# Altium integrated library Diodes - TVS.IntLib: 5379 symbols (part 19 of 122)
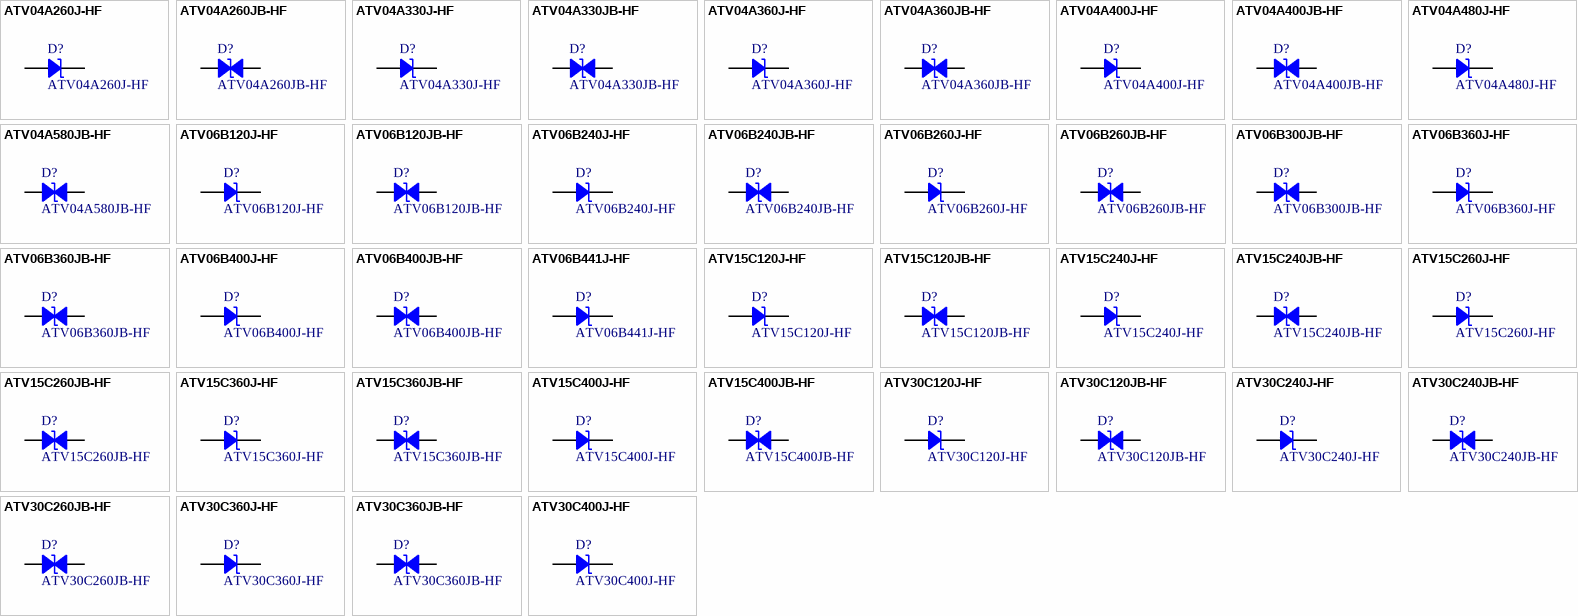
[diagram p152: symbols ATV04A260J-HF to ATV30C400J-HF]

## ATV30C120JB-HF
designator D?
TVS DIODE 12V 19.9V DO214AB; Manufacturer: Comchip Technology; Bidirectional Channels: 1; Current - Peak Pulse (10/1000µs): 150.75A; Power Line Protection: No; Power - Peak Pulse: 3000W (3kW); Type: Zener; Voltage - Breakdown (Min): 13.3V; Part Number: ATV30C120JB-HF; Applications: Automotive; ComponentLink1Description: Datasheet; ComponentLink1URL: http://www.comchiptech.com/admin/files/product/ATV30C-HF%20Series%20RevC.pdf; ComponentLink2Description: DigiKey Link; ComponentLink2URL: http://digikey.com/product-detail/en/comchip-technology/ATV30C120JB-HF/641-1589-1-ND/5013794; LastUpdated: 9/2/2020 1:28:07 AM; Lifecycle Status: Active; Minimum Order: 1; Mounting Type: Surface Mount; Operating Temperature: -55°C ~ 150°C (TJ); Package / Case: DO-214AB, SMC; Packaging: TapeAndReel; PartId: 8586; Part Status: Active; Price: 0.53; Series: Automotive, AEC-Q101; Supplier 1: DigiKey; Supplier Part Number 1: 641-1589-1-ND; Supplier Device Package: DO-214AB (SMC); Voltage - Clamping (Max) @ Ipp: 19.9V; Voltage - Reverse Standoff (Typ): 12V
footprint DO214AB SMC
pins: 1, 2

## ATV30C240J-HF
designator D?
TVS DIODE 24V 38.9V DO214AB; Manufacturer: Comchip Technology; Current - Peak Pulse (10/1000µs): 77.12A; Power Line Protection: No; Power - Peak Pulse: 3000W (3kW); Type: Zener; Unidirectional Channels: 1; Voltage - Breakdown (Min): 26.7V; Part Number: ATV30C240J-HF; Applications: Automotive; ComponentLink1Description: Datasheet; ComponentLink1URL: http://www.comchiptech.com/admin/files/product/ATV30C-HF%20Series%20RevC.pdf; ComponentLink2Description: DigiKey Link; ComponentLink2URL: http://digikey.com/product-detail/en/comchip-technology/ATV30C240J-HF/641-1592-1-ND/5013797; LastUpdated: 9/2/2020 1:20:06 AM; Lifecycle Status: Active; Minimum Order: 1; Mounting Type: Surface Mount; Operating Temperature: -55°C ~ 150°C (TJ); Package / Case: DO-214AB, SMC; Packaging: TapeAndReel; PartId: 6983; Part Status: Active; Price: 0.51; Series: Automotive, AEC-Q101; Supplier 1: DigiKey; Supplier Part Number 1: 641-1592-1-ND; Supplier Device Package: DO-214AB (SMC); Voltage - Clamping (Max) @ Ipp: 38.9V; Voltage - Reverse Standoff (Typ): 24V
footprint DO214AB SMC
pins: 1, 2

## ATV30C240JB-HF
designator D?
TVS DIODE 24V 38.9V DO214AB; Manufacturer: Comchip Technology; Bidirectional Channels: 1; Current - Peak Pulse (10/1000µs): 77.12A; Power Line Protection: No; Power - Peak Pulse: 3000W (3kW); Type: Zener; Voltage - Breakdown (Min): 26.7V; Part Number: ATV30C240JB-HF; Applications: Automotive; ComponentLink1Description: Datasheet; ComponentLink1URL: http://www.comchiptech.com/admin/files/product/ATV30C-HF%20Series%20RevC.pdf; ComponentLink2Description: DigiKey Link; ComponentLink2URL: http://digikey.com/product-detail/en/comchip-technology/ATV30C240JB-HF/641-1591-1-ND/5013796; LastUpdated: 9/2/2020 1:28:07 AM; Lifecycle Status: Active; Minimum Order: 1; Mounting Type: Surface Mount; Operating Temperature: -55°C ~ 150°C (TJ); Package / Case: DO-214AB, SMC; Packaging: TapeAndReel; PartId: 8546; Part Status: Active; Price: 0.53; Series: Automotive, AEC-Q101; Supplier 1: DigiKey; Supplier Part Number 1: 641-1591-1-ND; Supplier Device Package: DO-214AB (SMC); Voltage - Clamping (Max) @ Ipp: 38.9V; Voltage - Reverse Standoff (Typ): 24V
footprint DO214AB SMC
pins: 1, 2

## ATV30C260JB-HF
designator D?
TVS DIODE 26V 42.1V DO214AB; Manufacturer: Comchip Technology; Bidirectional Channels: 1; Current - Peak Pulse (10/1000µs): 71.26A; Power Line Protection: No; Power - Peak Pulse: 3000W (3kW); Type: Zener; Voltage - Breakdown (Min): 28.9V; Part Number: ATV30C260JB-HF; Applications: Automotive; ComponentLink1Description: Datasheet; ComponentLink1URL: http://www.comchiptech.com/admin/files/product/ATV30C-HF%20Series%20RevC.pdf; ComponentLink2Description: DigiKey Link; ComponentLink2URL: http://digikey.com/product-detail/en/comchip-technology/ATV30C260JB-HF/641-1593-1-ND/5013798; LastUpdated: 9/2/2020 1:28:07 AM; Lifecycle Status: Active; Minimum Order: 1; Mounting Type: Surface Mount; Operating Temperature: -55°C ~ 150°C (TJ); Package / Case: DO-214AB, SMC; Packaging: TapeAndReel; PartId: 8543; Part Status: Active; Price: 0.53; Series: Automotive, AEC-Q101; Supplier 1: DigiKey; Supplier Part Number 1: 641-1593-1-ND; Supplier Device Package: DO-214AB (SMC); Voltage - Clamping (Max) @ Ipp: 42.1V; Voltage - Reverse Standoff (Typ): 26V
footprint DO214AB SMC
pins: 1, 2

## ATV30C360J-HF
designator D?
TVS DIODE 36V 58.1V DO214AB; Manufacturer: Comchip Technology; Current - Peak Pulse (10/1000µs): 51.64A; Power Line Protection: No; Power - Peak Pulse: 3000W (3kW); Type: Zener; Unidirectional Channels: 1; Voltage - Breakdown (Min): 40V; Part Number: ATV30C360J-HF; Applications: Automotive; ComponentLink1Description: Datasheet; ComponentLink1URL: http://www.comchiptech.com/admin/files/product/ATV30C-HF%20Series%20RevC.pdf; ComponentLink2Description: DigiKey Link; ComponentLink2URL: http://digikey.com/product-detail/en/comchip-technology/ATV30C360J-HF/641-1596-1-ND/5013801; LastUpdated: 9/2/2020 1:20:06 AM; Lifecycle Status: Active; Minimum Order: 1; Mounting Type: Surface Mount; Operating Temperature: -55°C ~ 150°C (TJ); Package / Case: DO-214AB, SMC; Packaging: TapeAndReel; PartId: 6984; Part Status: Active; Price: 0.51; Series: Automotive, AEC-Q101; Supplier 1: DigiKey; Supplier Part Number 1: 641-1596-1-ND; Supplier Device Package: DO-214AB (SMC); Voltage - Clamping (Max) @ Ipp: 58.1V; Voltage - Reverse Standoff (Typ): 36V
footprint DO214AB SMC
pins: 1, 2

## ATV30C360JB-HF
designator D?
TVS DIODE 36V 58.1V DO214AB; Manufacturer: Comchip Technology; Bidirectional Channels: 1; Current - Peak Pulse (10/1000µs): 51.64A; Power Line Protection: No; Power - Peak Pulse: 3000W (3kW); Type: Zener; Voltage - Breakdown (Min): 40V; Part Number: ATV30C360JB-HF; Applications: Automotive; ComponentLink1Description: Datasheet; ComponentLink1URL: http://www.comchiptech.com/admin/files/product/ATV30C-HF%20Series%20RevC.pdf; ComponentLink2Description: DigiKey Link; ComponentLink2URL: http://digikey.com/product-detail/en/comchip-technology/ATV30C360JB-HF/641-1595-1-ND/5013800; LastUpdated: 9/2/2020 1:28:07 AM; Lifecycle Status: Active; Minimum Order: 1; Mounting Type: Surface Mount; Operating Temperature: -55°C ~ 150°C (TJ); Package / Case: DO-214AB, SMC; Packaging: TapeAndReel; PartId: 8544; Part Status: Active; Price: 0.53; Series: Automotive, AEC-Q101; Supplier 1: DigiKey; Supplier Part Number 1: 641-1595-1-ND; Supplier Device Package: DO-214AB (SMC); Voltage - Clamping (Max) @ Ipp: 58.1V; Voltage - Reverse Standoff (Typ): 36V
footprint DO214AB SMC
pins: 1, 2

## ATV30C400J-HF
designator D?
TVS DIODE 40V 64.5V DO214AB; Manufacturer: Comchip Technology; Current - Peak Pulse (10/1000µs): 46.51A; Power Line Protection: No; Power - Peak Pulse: 3000W (3kW); Type: Zener; Unidirectional Channels: 1; Voltage - Breakdown (Min): 44.4V; Part Number: ATV30C400J-HF; Applications: Automotive; ComponentLink1Description: Datasheet; ComponentLink1URL: http://www.comchiptech.com/admin/files/product/ATV30C-HF%20Series%20RevC.pdf; ComponentLink2Description: DigiKey Link; ComponentLink2URL: http://digikey.com/product-detail/en/comchip-technology/ATV30C400J-HF/641-1598-1-ND/5013803; LastUpdated: 9/2/2020 1:20:06 AM; Lifecycle Status: Active; Minimum Order: 1; Mounting Type: Surface Mount; Operating Temperature: -55°C ~ 150°C (TJ); Package / Case: DO-214AB, SMC; Packaging: TapeAndReel; PartId: 7008; Part Status: Active; Price: 0.51; Series: Automotive, AEC-Q101; Supplier 1: DigiKey; Supplier Part Number 1: 641-1598-1-ND; Supplier Device Package: DO-214AB (SMC); Voltage - Clamping (Max) @ Ipp: 64.5V; Voltage - Reverse Standoff (Typ): 40V
footprint DO214AB SMC
pins: 1, 2

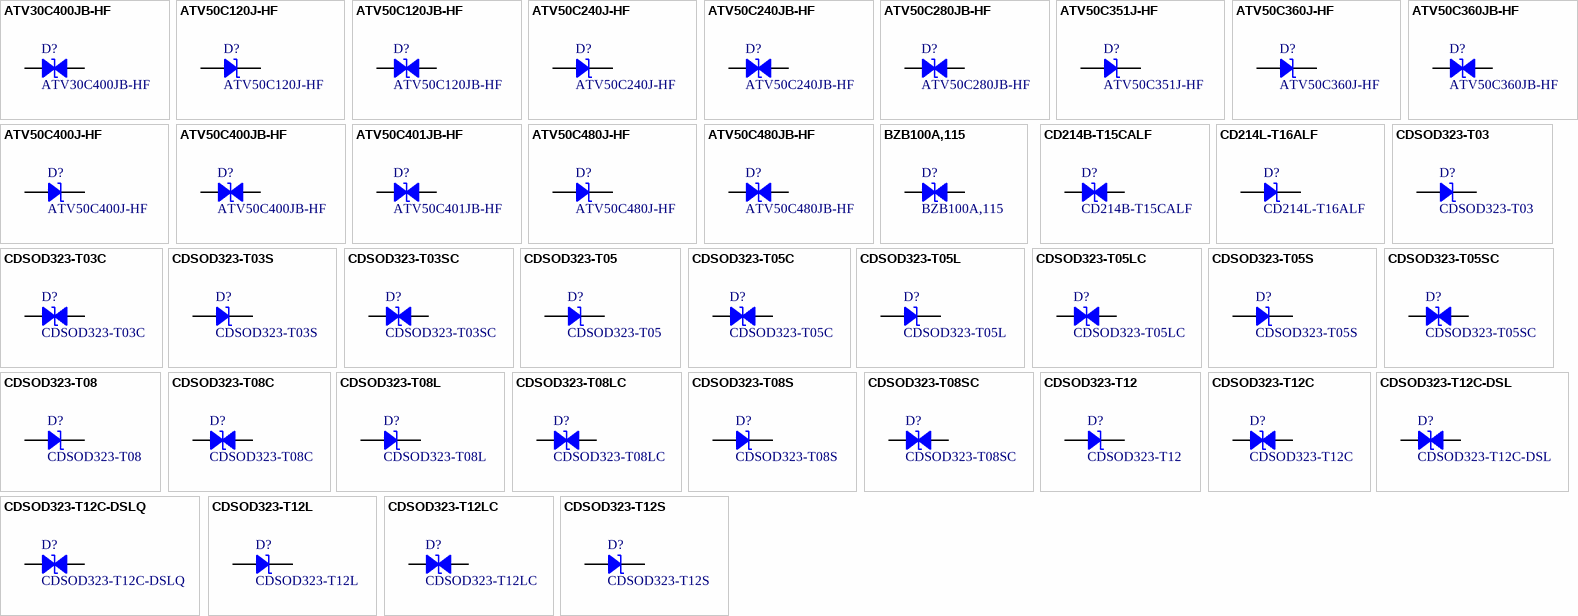
[diagram p20: symbols ATV30C400JB-HF to CDSOD323-T12S]

## ATV30C400JB-HF
designator D?
TVS DIODE 40V 64.5V DO214AB; Manufacturer: Comchip Technology; Bidirectional Channels: 1; Current - Peak Pulse (10/1000µs): 46.51A; Power Line Protection: No; Power - Peak Pulse: 3000W (3kW); Type: Zener; Voltage - Breakdown (Min): 44.4V; Part Number: ATV30C400JB-HF; Applications: Automotive; ComponentLink1Description: Datasheet; ComponentLink1URL: http://www.comchiptech.com/admin/files/product/ATV30C-HF%20Series%20RevC.pdf; ComponentLink2Description: DigiKey Link; ComponentLink2URL: http://digikey.com/product-detail/en/comchip-technology/ATV30C400JB-HF/641-1597-1-ND/5013802; LastUpdated: 9/2/2020 1:28:07 AM; Lifecycle Status: Active; Minimum Order: 1; Mounting Type: Surface Mount; Operating Temperature: -55°C ~ 150°C (TJ); Package / Case: DO-214AB, SMC; Packaging: TapeAndReel; PartId: 8545; Part Status: Active; Price: 0.53; Series: Automotive, AEC-Q101; Supplier 1: DigiKey; Supplier Part Number 1: 641-1597-1-ND; Supplier Device Package: DO-214AB (SMC); Voltage - Clamping (Max) @ Ipp: 64.5V; Voltage - Reverse Standoff (Typ): 40V
footprint DO214AB SMC
pins: 1, 2

## ATV50C120J-HF
designator D?
TVS DIODE 12V 19.9V DO214AB; Manufacturer: Comchip Technology; Current - Peak Pulse (10/1000µs): 251.3A; Power Line Protection: No; Power - Peak Pulse: 5000W (5kW); Type: Zener; Unidirectional Channels: 1; Voltage - Breakdown (Min): 13.3V; Part Number: ATV50C120J-HF; Applications: Automotive; ComponentLink1Description: Datasheet; ComponentLink1URL: http://www.comchiptech.com/admin/files/product/ATV50C-HF%20Series%20RevC.pdf; ComponentLink2Description: DigiKey Link; ComponentLink2URL: http://digikey.com/product-detail/en/comchip-technology/ATV50C120J-HF/641-1600-1-ND/5013805; LastUpdated: 9/2/2020 1:20:05 AM; Lifecycle Status: Active; Minimum Order: 1; Mounting Type: Surface Mount; Operating Temperature: -55°C ~ 150°C (TJ); Package / Case: DO-214AB, SMC; Packaging: CutTape; PartId: 6956; Part Status: Active; Price: 1.56; Series: Automotive, AEC-Q101; Supplier 1: DigiKey; Supplier Part Number 1: 641-1600-1-ND; Supplier Device Package: DO-214AB (SMC); Voltage - Clamping (Max) @ Ipp: 19.9V; Voltage - Reverse Standoff (Typ): 12V
footprint DO214AB SMC
pins: 1, 2

## ATV50C120JB-HF
designator D?
TVS DIODE 12V 19.9V DO214AB; Manufacturer: Comchip Technology; Bidirectional Channels: 1; Current - Peak Pulse (10/1000µs): 251.3A; Power Line Protection: No; Power - Peak Pulse: 5000W (5kW); Type: Zener; Voltage - Breakdown (Min): 13.3V; Part Number: ATV50C120JB-HF; Applications: Automotive; ComponentLink1Description: Datasheet; ComponentLink1URL: http://www.comchiptech.com/admin/files/product/ATV50C-HF%20Series%20RevC.pdf; ComponentLink2Description: DigiKey Link; ComponentLink2URL: http://digikey.com/product-detail/en/comchip-technology/ATV50C120JB-HF/641-1599-1-ND/5013804; LastUpdated: 9/2/2020 1:28:07 AM; Lifecycle Status: Active; Minimum Order: 1; Mounting Type: Surface Mount; Operating Temperature: -55°C ~ 150°C (TJ); Package / Case: DO-214AB, SMC; Packaging: TapeAndReel; PartId: 8532; Part Status: Active; Price: 0.74; Series: Automotive, AEC-Q101; Supplier 1: DigiKey; Supplier Part Number 1: 641-1599-1-ND; Supplier Device Package: DO-214AB (SMC); Voltage - Clamping (Max) @ Ipp: 19.9V; Voltage - Reverse Standoff (Typ): 12V
footprint DO214AB SMC
pins: 1, 2

## ATV50C240J-HF
designator D?
TVS DIODE 24V 38.9V DO214AB; Manufacturer: Comchip Technology; Current - Peak Pulse (10/1000µs): 128.5A; Power Line Protection: No; Power - Peak Pulse: 5000W (5kW); Type: Zener; Unidirectional Channels: 1; Voltage - Breakdown (Min): 26.7V; Part Number: ATV50C240J-HF; Applications: Automotive; ComponentLink1Description: Datasheet; ComponentLink1URL: http://www.comchiptech.com/admin/files/product/ATV50C-HF%20Series%20RevC.pdf; ComponentLink2Description: DigiKey Link; ComponentLink2URL: http://digikey.com/product-detail/en/comchip-technology/ATV50C240J-HF/641-1602-1-ND/5013807; LastUpdated: 9/2/2020 1:20:05 AM; Lifecycle Status: Active; Minimum Order: 1; Mounting Type: Surface Mount; Operating Temperature: -55°C ~ 150°C (TJ); Package / Case: DO-214AB, SMC; Packaging: TapeAndReel; PartId: 6957; Part Status: Active; Price: 0.71; Series: Automotive, AEC-Q101; Supplier 1: DigiKey; Supplier Part Number 1: 641-1602-1-ND; Supplier Device Package: DO-214AB (SMC); Voltage - Clamping (Max) @ Ipp: 38.9V; Voltage - Reverse Standoff (Typ): 24V
footprint DO214AB SMC
pins: 1, 2

## ATV50C240JB-HF
designator D?
TVS DIODE 24V 38.9V DO214AB; Manufacturer: Comchip Technology; Bidirectional Channels: 1; Current - Peak Pulse (10/1000µs): 128.5A; Power Line Protection: No; Power - Peak Pulse: 5000W (5kW); Type: Zener; Voltage - Breakdown (Min): 26.7V; Part Number: ATV50C240JB-HF; Applications: Automotive; ComponentLink1Description: Datasheet; ComponentLink1URL: http://www.comchiptech.com/admin/files/product/ATV50C-HF%20Series%20RevC.pdf; ComponentLink2Description: DigiKey Link; ComponentLink2URL: http://digikey.com/product-detail/en/comchip-technology/ATV50C240JB-HF/641-1601-1-ND/5013806; LastUpdated: 9/2/2020 1:28:03 AM; Lifecycle Status: Active; Minimum Order: 1; Mounting Type: Surface Mount; Operating Temperature: -55°C ~ 150°C (TJ); Package / Case: DO-214AB, SMC; Packaging: TapeAndReel; PartId: 8079; Part Status: Active; Price: 0.74; Series: Automotive, AEC-Q101; Supplier 1: DigiKey; Supplier Part Number 1: 641-1601-1-ND; Supplier Device Package: DO-214AB (SMC); Voltage - Clamping (Max) @ Ipp: 38.9V; Voltage - Reverse Standoff (Typ): 24V
footprint DO214AB SMC
pins: 1, 2

## ATV50C280JB-HF
designator D?
TVS DIODE 28V 45.4V DO214AB; Manufacturer: Comchip Technology; Bidirectional Channels: 1; Current - Peak Pulse (10/1000µs): 110.1A; Power Line Protection: No; Power - Peak Pulse: 5000W (5kW); Type: Zener; Voltage - Breakdown (Min): 31.1V; Part Number: ATV50C280JB-HF; Applications: Automotive; ComponentLink1Description: Datasheet; ComponentLink1URL: http://www.comchiptech.com/admin/files/product/ATV50C-G%20Series%20RevC.pdf; ComponentLink2Description: DigiKey Link; ComponentLink2URL: http://digikey.com/product-detail/en/comchip-technology/ATV50C280JB-HF/641-2084-1-ND/10131670; LastUpdated: 9/2/2020 1:28:04 AM; Lifecycle Status: Active; Minimum Order: 1; Mounting Type: Surface Mount; Operating Temperature: -55°C ~ 150°C (TJ); Package / Case: DO-214AB, SMC; Packaging: TapeAndReel; PartId: 8195; Part Status: Active; Price: 0.74; Series: Automotive, AEC-Q101; Supplier 1: DigiKey; Supplier Part Number 1: 641-2084-1-ND; Supplier Device Package: DO-214AB (SMC); Voltage - Clamping (Max) @ Ipp: 45.4V; Voltage - Reverse Standoff (Typ): 28V
footprint DO214AB SMC
pins: 1, 2

## ATV50C351J-HF
designator D?
TVS DIODE 350V 567V DO214AB; Manufacturer: Comchip Technology; Current - Peak Pulse (10/1000µs): 8.8A; Power Line Protection: No; Power - Peak Pulse: 5000W (5kW); Type: Zener; Unidirectional Channels: 1; Voltage - Breakdown (Min): 391V; Part Number: ATV50C351J-HF; Applications: Automotive; ComponentLink1Description: Datasheet; ComponentLink1URL: http://www.comchiptech.com/admin/files/product/ATV50C-G%20Series%20RevC.pdf; ComponentLink2Description: DigiKey Link; ComponentLink2URL: http://digikey.com/product-detail/en/comchip-technology/ATV50C351J-HF/641-2067-1-ND/10131653; LastUpdated: 9/2/2020 1:20:04 AM; Lifecycle Status: Active; Minimum Order: 1; Mounting Type: Surface Mount; Operating Temperature: -55°C ~ 150°C (TJ); Package / Case: DO-214AB, SMC; Packaging: TapeAndReel; PartId: 6810; Part Status: Active; Price: 0.90; Series: Automotive, AEC-Q101; Supplier 1: DigiKey; Supplier Part Number 1: 641-2067-1-ND; Supplier Device Package: DO-214AB (SMC); Voltage - Clamping (Max) @ Ipp: 567V; Voltage - Reverse Standoff (Typ): 350V
footprint DO214AB SMC
pins: 1, 2

## ATV50C360J-HF
designator D?
TVS DIODE 36V 58.1V DO214AB; Manufacturer: Comchip Technology; Current - Peak Pulse (10/1000µs): 86.1A; Power Line Protection: No; Power - Peak Pulse: 5000W (5kW); Type: Zener; Unidirectional Channels: 1; Voltage - Breakdown (Min): 40V; Part Number: ATV50C360J-HF; Applications: Automotive; ComponentLink1Description: Datasheet; ComponentLink1URL: http://www.comchiptech.com/admin/files/product/ATV50C-HF%20Series%20RevC.pdf; ComponentLink2Description: DigiKey Link; ComponentLink2URL: http://digikey.com/product-detail/en/comchip-technology/ATV50C360J-HF/641-1604-1-ND/5013809; LastUpdated: 9/2/2020 1:20:00 AM; Lifecycle Status: Active; Minimum Order: 1; Mounting Type: Surface Mount; Operating Temperature: -55°C ~ 150°C (TJ); Package / Case: DO-214AB, SMC; Packaging: TapeAndReel; PartId: 6432; Part Status: Active; Price: 0.70; Series: Automotive, AEC-Q101; Supplier 1: DigiKey; Supplier Part Number 1: 641-1604-1-ND; Supplier Device Package: DO-214AB (SMC); Voltage - Clamping (Max) @ Ipp: 58.1V; Voltage - Reverse Standoff (Typ): 36V
footprint DO214AB SMC
pins: 1, 2

## ATV50C360JB-HF
designator D?
TVS DIODE 36V 58.1V DO214AB; Manufacturer: Comchip Technology; Bidirectional Channels: 1; Current - Peak Pulse (10/1000µs): 86.1A; Power Line Protection: No; Power - Peak Pulse: 5000W (5kW); Type: Zener; Voltage - Breakdown (Min): 40V; Part Number: ATV50C360JB-HF; Applications: Automotive; ComponentLink1Description: Datasheet; ComponentLink1URL: http://www.comchiptech.com/admin/files/product/ATV50C-HF%20Series%20RevC.pdf; ComponentLink2Description: DigiKey Link; ComponentLink2URL: http://digikey.com/product-detail/en/comchip-technology/ATV50C360JB-HF/641-1603-1-ND/5013808; LastUpdated: 9/2/2020 1:28:07 AM; Lifecycle Status: Active; Minimum Order: 1; Mounting Type: Surface Mount; Operating Temperature: -55°C ~ 150°C (TJ); Package / Case: DO-214AB, SMC; Packaging: TapeAndReel; PartId: 8531; Part Status: Active; Price: 0.74; Series: Automotive, AEC-Q101; Supplier 1: DigiKey; Supplier Part Number 1: 641-1603-1-ND; Supplier Device Package: DO-214AB (SMC); Voltage - Clamping (Max) @ Ipp: 58.1V; Voltage - Reverse Standoff (Typ): 36V
footprint DO214AB SMC
pins: 1, 2

## ATV50C400J-HF
designator D?
TVS DIODE 40V 64.5V DO214AB; Manufacturer: Comchip Technology; Current - Peak Pulse (10/1000µs): 77.5A; Power Line Protection: No; Power - Peak Pulse: 5000W (5kW); Type: Zener; Unidirectional Channels: 1; Voltage - Breakdown (Min): 44.4V; Part Number: ATV50C400J-HF; Applications: Automotive; ComponentLink1Description: Datasheet; ComponentLink1URL: http://www.comchiptech.com/admin/files/product/ATV50C-HF%20Series%20RevC.pdf; ComponentLink2Description: DigiKey Link; ComponentLink2URL: http://digikey.com/product-detail/en/comchip-technology/ATV50C400J-HF/641-1606-1-ND/5013811; LastUpdated: 9/2/2020 1:20:04 AM; Lifecycle Status: Active; Minimum Order: 1; Mounting Type: Surface Mount; Operating Temperature: -55°C ~ 150°C (TJ); Package / Case: DO-214AB, SMC; Packaging: TapeAndReel; PartId: 6808; Part Status: Active; Price: 0.90; Series: Automotive, AEC-Q101; Supplier 1: DigiKey; Supplier Part Number 1: 641-1606-1-ND; Supplier Device Package: DO-214AB (SMC); Voltage - Clamping (Max) @ Ipp: 64.5V; Voltage - Reverse Standoff (Typ): 40V
footprint DO214AB SMC
pins: 1, 2

## ATV50C400JB-HF
designator D?
TVS DIODE 40V 64.5V DO214AB; Manufacturer: Comchip Technology; Bidirectional Channels: 1; Current - Peak Pulse (10/1000µs): 77.5A; Power Line Protection: No; Power - Peak Pulse: 5000W (5kW); Type: Zener; Voltage - Breakdown (Min): 44.4V; Part Number: ATV50C400JB-HF; Applications: Automotive; ComponentLink1Description: Datasheet; ComponentLink1URL: http://www.comchiptech.com/admin/files/product/ATV50C-HF%20Series%20RevC.pdf; ComponentLink2Description: DigiKey Link; ComponentLink2URL: http://digikey.com/product-detail/en/comchip-technology/ATV50C400JB-HF/641-1605-1-ND/5013810; LastUpdated: 9/2/2020 1:28:06 AM; Lifecycle Status: Active; Minimum Order: 1; Mounting Type: Surface Mount; Operating Temperature: -55°C ~ 150°C (TJ); Package / Case: DO-214AB, SMC; Packaging: TapeAndReel; PartId: 8411; Part Status: Active; Price: 0.96; Series: Automotive, AEC-Q101; Supplier 1: DigiKey; Supplier Part Number 1: 641-1605-1-ND; Supplier Device Package: DO-214AB (SMC); Voltage - Clamping (Max) @ Ipp: 64.5V; Voltage - Reverse Standoff (Typ): 40V
footprint DO214AB SMC
pins: 1, 2

## ATV50C401JB-HF
designator D?
TVS DIODE 400V 648V DO214AB; Manufacturer: Comchip Technology; Bidirectional Channels: 1; Current - Peak Pulse (10/1000µs): 7.7A; Power Line Protection: No; Power - Peak Pulse: 5000W (5kW); Type: Zener; Voltage - Breakdown (Min): 447V; Part Number: ATV50C401JB-HF; Applications: Automotive; ComponentLink1Description: Datasheet; ComponentLink1URL: http://www.comchiptech.com/admin/files/product/ATV50C-G%20Series%20RevC.pdf; ComponentLink2Description: DigiKey Link; ComponentLink2URL: http://digikey.com/product-detail/en/comchip-technology/ATV50C401JB-HF/641-1962-1-ND/9477891; LastUpdated: 9/2/2020 1:28:04 AM; Lifecycle Status: Active; Minimum Order: 1; Mounting Type: Surface Mount; Operating Temperature: -55°C ~ 150°C (TJ); Package / Case: DO-214AB, SMC; Packaging: TapeAndReel; PartId: 8241; Part Status: Active; Price: 0.96; Series: Automotive, AEC-Q101; Supplier 1: DigiKey; Supplier Part Number 1: 641-1962-1-ND; Supplier Device Package: DO-214AB (SMC); Voltage - Clamping (Max) @ Ipp: 648V; Voltage - Reverse Standoff (Typ): 400V
footprint DO214AB SMC
pins: 1, 2

## ATV50C480J-HF
designator D?
TVS DIODE 48V 77.4V DO214AB; Manufacturer: Comchip Technology; Current - Peak Pulse (10/1000µs): 64.6A; Power Line Protection: No; Power - Peak Pulse: 5000W (5kW); Type: Zener; Unidirectional Channels: 1; Voltage - Breakdown (Min): 53.3V; Part Number: ATV50C480J-HF; Applications: Automotive; ComponentLink1Description: Datasheet; ComponentLink1URL: http://www.comchiptech.com/admin/files/product/ATV50C-G%20Series%20RevC.pdf; ComponentLink2Description: DigiKey Link; ComponentLink2URL: http://digikey.com/product-detail/en/comchip-technology/ATV50C480J-HF/641-1924-1-ND/7100819; LastUpdated: 9/2/2020 1:20:04 AM; Lifecycle Status: Active; Minimum Order: 1; Mounting Type: Surface Mount; Operating Temperature: -55°C ~ 155°C (TJ); Package / Case: DO-214AB, SMC; Packaging: TapeAndReel; PartId: 6809; Part Status: Active; Price: 0.90; Series: Automotive, AEC-Q101; Supplier 1: DigiKey; Supplier Part Number 1: 641-1924-1-ND; Supplier Device Package: DO-214AB (SMC); Voltage - Clamping (Max) @ Ipp: 77.4V; Voltage - Reverse Standoff (Typ): 48V
footprint DO214AB SMC
pins: 1, 2

## ATV50C480JB-HF
designator D?
TVS DIODE 48V 77.4V DO214AB; Manufacturer: Comchip Technology; Bidirectional Channels: 1; Current - Peak Pulse (10/1000µs): 64.6A; Power Line Protection: No; Power - Peak Pulse: 5000W (5kW); Type: Zener; Voltage - Breakdown (Min): 53.3V; Part Number: ATV50C480JB-HF; Applications: Automotive; ComponentLink1Description: Datasheet; ComponentLink1URL: http://www.comchiptech.com/admin/files/product/ATV50C-G%20Series%20RevC.pdf; ComponentLink2Description: DigiKey Link; ComponentLink2URL: http://digikey.com/product-detail/en/comchip-technology/ATV50C480JB-HF/641-1923-1-ND/7100818; LastUpdated: 9/2/2020 1:28:01 AM; Lifecycle Status: Active; Minimum Order: 1; Mounting Type: Surface Mount; Operating Temperature: -55°C ~ 155°C (TJ); Package / Case: DO-214AB, SMC; Packaging: TapeAndReel; PartId: 7874; Part Status: Active; Price: 0.96; Series: Automotive, AEC-Q101; Supplier 1: DigiKey; Supplier Part Number 1: 641-1923-1-ND; Supplier Device Package: DO-214AB (SMC); Voltage - Clamping (Max) @ Ipp: 77.4V; Voltage - Reverse Standoff (Typ): 48V
footprint DO214AB SMC
pins: 1, 2

## BZB100A,115
designator D?
TVS DIODE 100V SOD323; Manufacturer: Nexperia USA Inc.; Bidirectional Channels: 1; Capacitance @ Frequency: 10pF @ 1MHz; Power Line Protection: No; Power - Peak Pulse: 75W; Type: Zener; Part Number: BZB100A,115; Applications: Automotive; ComponentLink1Description: Datasheet; ComponentLink1URL: https://assets.nexperia.com/documents/data-sheet/BZB100A.pdf; ComponentLink2Description: DigiKey Link; ComponentLink2URL: http://digikey.com/product-detail/en/nexperia-usa-inc/BZB100A115/1727-5533-1-ND/2697356; LastUpdated: 9/2/2020 1:28:29 AM; Lifecycle Status: Active; Minimum Order: 1; Mounting Type: Surface Mount; Operating Temperature: -55°C ~ 150°C (TA); Package / Case: SC-76, SOD-323; Packaging: TapeAndReel; PartId: 9962; Part Status: Active; Price: 0.08; Series: Automotive, AEC-Q101; Supplier 1: DigiKey; Supplier Part Number 1: 1727-5533-1-ND; Supplier Device Package: SOD-323; Voltage - Reverse Standoff (Typ): 100V
footprint SOD323
pins: 1, 2

## CD214B-T15CALF
designator D?
TVS DIODE 15V 24.4V SMB; Manufacturer: Bourns Inc.; Bidirectional Channels: 1; Current - Peak Pulse (10/1000µs): 24A; Power Line Protection: No; Power - Peak Pulse: 600W; Type: Zener; Voltage - Breakdown (Min): 16.7V; Part Number: CD214B-T15CALF; Applications: General Purpose; ComponentLink1Description: Datasheet; ComponentLink1URL: https://www.bourns.com/docs/Product-Datasheets/CD214B.pdf; ComponentLink2Description: DigiKey Link; ComponentLink2URL: http://digikey.com/product-detail/en/bourns-inc/CD214B-T15CALF/CD214B-T15CALFCT-ND/6134026; LastUpdated: 9/2/2020 1:28:16 AM; Lifecycle Status: Active; Minimum Order: 1; Mounting Type: Surface Mount; Operating Temperature: -55°C ~ 150°C (TJ); Package / Case: DO-214AA, SMB; Packaging: TapeAndReel; PartId: 8964; Part Status: Active; Price: 0.16; Series: -; Supplier 1: DigiKey; Supplier Part Number 1: CD214B-T15CALFCT-ND; Supplier Device Package: SMB (DO-214AA); Voltage - Clamping (Max) @ Ipp: 24.4V; Voltage - Reverse Standoff (Typ): 15V
footprint DO214AA SMB
pins: 1, 2

## CD214L-T16ALF
designator D?
TVS DIODE 16V 26V SMC; Manufacturer: Bourns Inc.; Current - Peak Pulse (10/1000µs): 115.4A; Power Line Protection: No; Power - Peak Pulse: 3000W (3kW); Type: Zener; Unidirectional Channels: 1; Voltage - Breakdown (Min): 17.8V; Part Number: CD214L-T16ALF; Applications: General Purpose; ComponentLink1Description: Datasheet; ComponentLink1URL: https://www.bourns.com/docs/Product-Datasheets/CD214L-T.pdf; ComponentLink2Description: DigiKey Link; ComponentLink2URL: http://digikey.com/product-detail/en/bourns-inc/CD214L-T16ALF/CD214L-T16ALFCT-ND/3742016; LastUpdated: 9/2/2020 1:20:05 AM; Lifecycle Status: Active; Minimum Order: 1; Mounting Type: Surface Mount; Operating Temperature: -55°C ~ 150°C (TJ); Package / Case: DO-214AB, SMC; Packaging: TapeAndReel; PartId: 6958; Part Status: Active; Price: 0.64; Series: -; Supplier 1: DigiKey; Supplier Part Number 1: CD214L-T16ALFCT-ND; Supplier Device Package: SMC (DO-214AB); Voltage - Clamping (Max) @ Ipp: 26V; Voltage - Reverse Standoff (Typ): 16V
footprint DO214AB SMC
pins: 1, 2

## CDSOD323-T03
designator D?
TVS DIODE 3.3V 19V SOD323; Manufacturer: Bourns Inc.; Capacitance @ Frequency: 3pF @ 1MHz; Current - Peak Pulse (10/1000µs): 20A (8/20µs); Power Line Protection: No; Power - Peak Pulse: 350W; Type: Zener; Unidirectional Channels: 1; Voltage - Breakdown (Min): 4V; Voltage - Clamping (Max) @ Ipp: 19V (Typ); Part Number: CDSOD323-T03; Applications: General Purpose; ComponentLink1Description: Datasheet; ComponentLink1URL: https://www.bourns.com/docs/Product-Datasheets/CDSOD323-TxxC.PDF; ComponentLink2Description: DigiKey Link; ComponentLink2URL: http://digikey.com/product-detail/en/bourns-inc/CDSOD323-T03/CDSOD323-T03CT-ND/3742024; LastUpdated: 9/2/2020 1:28:27 AM; Lifecycle Status: Active; Minimum Order: 1; Mounting Type: Surface Mount; Operating Temperature: -55°C ~ 150°C (TJ); Package / Case: SC-76, SOD-323; Packaging: TapeAndReel; PartId: 9865; Part Status: Active; Price: 0.24; Series: -; Supplier 1: DigiKey; Supplier Part Number 1: CDSOD323-T03CT-ND; Supplier Device Package: SOD-323; Voltage - Reverse Standoff (Typ): 3.3V
footprint SOD323
pins: 1, 2

## CDSOD323-T03C
designator D?
TVS DIODE 3.3V 19V SOD323; Manufacturer: Bourns Inc.; Bidirectional Channels: 1; Capacitance @ Frequency: 3pF @ 1MHz; Current - Peak Pulse (10/1000µs): 20A (8/20µs); Power Line Protection: No; Power - Peak Pulse: 350W; Type: Zener; Voltage - Breakdown (Min): 4V; Voltage - Clamping (Max) @ Ipp: 19V (Typ); Part Number: CDSOD323-T03C; Applications: General Purpose; ComponentLink1Description: Datasheet; ComponentLink1URL: https://www.bourns.com/docs/Product-Datasheets/CDSOD323-TxxC.PDF; ComponentLink2Description: DigiKey Link; ComponentLink2URL: http://digikey.com/product-detail/en/bourns-inc/CDSOD323-T03C/CDSOD323-T03CCT-ND/3742025; LastUpdated: 9/2/2020 1:28:29 AM; Lifecycle Status: Active; Minimum Order: 1; Mounting Type: Surface Mount; Operating Temperature: -55°C ~ 150°C (TJ); Package / Case: SC-76, SOD-323; Packaging: TapeAndReel; PartId: 9949; Part Status: Active; Price: 0.26; Series: -; Supplier 1: DigiKey; Supplier Part Number 1: CDSOD323-T03CCT-ND; Supplier Device Package: SOD-323; Voltage - Reverse Standoff (Typ): 3.3V
footprint SOD323
pins: 1, 2

## CDSOD323-T03S
designator D?
TVS DIODE 3.3V 10.9V SOD323; Manufacturer: Bourns Inc.; Capacitance @ Frequency: 500pF @ 1MHz; Current - Peak Pulse (10/1000µs): 43A (8/20µs); Power Line Protection: No; Power - Peak Pulse: 500W; Type: Zener; Unidirectional Channels: 1; Voltage - Breakdown (Min): 4V; Voltage - Clamping (Max) @ Ipp: 10.9V (Typ); Part Number: CDSOD323-T03S; Applications: General Purpose; ComponentLink1Description: Datasheet; ComponentLink1URL: https://www.bourns.com/docs/Product-Datasheets/CDSOD323-TxxSC.pdf; ComponentLink2Description: DigiKey Link; ComponentLink2URL: http://digikey.com/product-detail/en/bourns-inc/CDSOD323-T03S/CDSOD323-T03SCT-ND/5774993; LastUpdated: 9/2/2020 1:28:27 AM; Lifecycle Status: Active; Minimum Order: 1; Mounting Type: Surface Mount; Operating Temperature: -55°C ~ 150°C (TJ); Package / Case: SC-76, SOD-323; Packaging: TapeAndReel; PartId: 9867; Part Status: Active; Price: 0.22; Series: -; Supplier 1: DigiKey; Supplier Part Number 1: CDSOD323-T03SCT-ND; Supplier Device Package: SOD-323; Voltage - Reverse Standoff (Typ): 3.3V
footprint SOD323
pins: 1, 2

## CDSOD323-T03SC
designator D?
TVS DIODE 3.3V 10.9V SOD323; Manufacturer: Bourns Inc.; Bidirectional Channels: 1; Capacitance @ Frequency: 200pF @ 1MHz; Current - Peak Pulse (10/1000µs): 43A (8/20µs); Power Line Protection: No; Power - Peak Pulse: 400W; Type: Zener; Voltage - Breakdown (Min): 4V; Voltage - Clamping (Max) @ Ipp: 10.9V (Typ); Part Number: CDSOD323-T03SC; Applications: General Purpose; ComponentLink1Description: Datasheet; ComponentLink1URL: https://www.bourns.com/docs/Product-Datasheets/CDSOD323-TxxSC.pdf; ComponentLink2Description: DigiKey Link; ComponentLink2URL: http://digikey.com/product-detail/en/bourns-inc/CDSOD323-T03SC/CDSOD323-T03SCCT-ND/3974419; LastUpdated: 9/2/2020 1:28:29 AM; Lifecycle Status: Active; Minimum Order: 1; Mounting Type: Surface Mount; Operating Temperature: -55°C ~ 150°C (TJ); Package / Case: SC-76, SOD-323; Packaging: TapeAndReel; PartId: 9955; Part Status: Active; Price: 0.23; Series: -; Supplier 1: DigiKey; Supplier Part Number 1: CDSOD323-T03SCCT-ND; Supplier Device Package: SOD-323; Voltage - Reverse Standoff (Typ): 3.3V
footprint SOD323
pins: 1, 2

## CDSOD323-T05
designator D?
TVS DIODE 5V 18.3V SOD323; Manufacturer: Bourns Inc.; Capacitance @ Frequency: 3pF @ 1MHz; Current - Peak Pulse (10/1000µs): 17A (8/20µs); Power Line Protection: No; Power - Peak Pulse: 350W; Type: Zener; Unidirectional Channels: 1; Voltage - Breakdown (Min): 6V; Voltage - Clamping (Max) @ Ipp: 18.3V (Typ); Part Number: CDSOD323-T05; Applications: General Purpose; ComponentLink1Description: Datasheet; ComponentLink1URL: https://www.bourns.com/docs/Product-Datasheets/CDSOD323-TxxC.PDF; ComponentLink2Description: DigiKey Link; ComponentLink2URL: http://digikey.com/product-detail/en/bourns-inc/CDSOD323-T05/CDSOD323-T05CT-ND/3742026; LastUpdated: 9/2/2020 1:28:27 AM; Lifecycle Status: Active; Minimum Order: 1; Mounting Type: Surface Mount; Operating Temperature: -55°C ~ 150°C (TJ); Package / Case: SC-76, SOD-323; Packaging: TapeAndReel; PartId: 9864; Part Status: Active; Price: 0.24; Series: -; Supplier 1: DigiKey; Supplier Part Number 1: CDSOD323-T05CT-ND; Supplier Device Package: SOD-323; Voltage - Reverse Standoff (Typ): 5V
footprint SOD323
pins: 1, 2

## CDSOD323-T05C
designator D?
TVS DIODE 5V 18.3V SOD323; Manufacturer: Bourns Inc.; Bidirectional Channels: 1; Capacitance @ Frequency: 3pF @ 1MHz; Current - Peak Pulse (10/1000µs): 17A (8/20µs); Power Line Protection: No; Power - Peak Pulse: 350W; Type: Zener; Voltage - Breakdown (Min): 6V; Voltage - Clamping (Max) @ Ipp: 18.3V (Typ); Part Number: CDSOD323-T05C; Applications: General Purpose; ComponentLink1Description: Datasheet; ComponentLink1URL: https://www.bourns.com/docs/Product-Datasheets/CDSOD323-TxxC.PDF; ComponentLink2Description: DigiKey Link; ComponentLink2URL: http://digikey.com/product-detail/en/bourns-inc/CDSOD323-T05C/CDSOD323-T05CCT-ND/3742027; LastUpdated: 9/2/2020 1:28:29 AM; Lifecycle Status: Active; Minimum Order: 1; Mounting Type: Surface Mount; Operating Temperature: -55°C ~ 150°C (TJ); Package / Case: SC-76, SOD-323; Packaging: TapeAndReel; PartId: 9948; Part Status: Active; Price: 0.26; Series: -; Supplier 1: DigiKey; Supplier Part Number 1: CDSOD323-T05CCT-ND; Supplier Device Package: SOD-323; Voltage - Reverse Standoff (Typ): 5V
footprint SOD323
pins: 1, 2

## CDSOD323-T05L
designator D?
TVS DIODE 5V 18.3V SOD323; Manufacturer: Bourns Inc.; Capacitance @ Frequency: 1pF @ 1MHz; Current - Peak Pulse (10/1000µs): 15A (8/20µs); Power Line Protection: No; Power - Peak Pulse: 350W; Type: Zener; Unidirectional Channels: 1; Voltage - Breakdown (Min): 6V; Voltage - Clamping (Max) @ Ipp: 18.3V (Typ); Part Number: CDSOD323-T05L; Applications: HDMI, USB OTG; ComponentLink1Description: Datasheet; ComponentLink1URL: https://www.bourns.com/docs/Product-Datasheets/CDSOD323-TxxLC.pdf; ComponentLink2Description: DigiKey Link; ComponentLink2URL: http://digikey.com/product-detail/en/bourns-inc/CDSOD323-T05L/CDSOD323-T05LCT-ND/5355715; LastUpdated: 9/2/2020 1:28:26 AM; Lifecycle Status: Active; Minimum Order: 1; Mounting Type: Surface Mount; Operating Temperature: -55°C ~ 150°C (TJ); Package / Case: SC-76, SOD-323; Packaging: TapeAndReel; PartId: 9838; Part Status: Active; Price: 0.29; Series: -; Supplier 1: DigiKey; Supplier Part Number 1: CDSOD323-T05LCT-ND; Supplier Device Package: SOD-323; Voltage - Reverse Standoff (Typ): 5V
footprint SOD323
pins: 1, 2

## CDSOD323-T05LC
designator D?
TVS DIODE 5V 18.3V SOD323; Manufacturer: Bourns Inc.; Bidirectional Channels: 1; Capacitance @ Frequency: 1pF @ 1MHz; Current - Peak Pulse (10/1000µs): 15A (8/20µs); Power Line Protection: No; Power - Peak Pulse: 250W; Type: Zener; Voltage - Breakdown (Min): 6V; Voltage - Clamping (Max) @ Ipp: 18.3V (Typ); Part Number: CDSOD323-T05LC; Applications: HDMI, USB OTG; ComponentLink1Description: Datasheet; ComponentLink1URL: https://www.bourns.com/docs/Product-Datasheets/CDSOD323-TxxLC.pdf; ComponentLink2Description: DigiKey Link; ComponentLink2URL: http://digikey.com/product-detail/en/bourns-inc/CDSOD323-T05LC/CDSOD323-T05LCCT-ND/3742028; LastUpdated: 9/2/2020 1:28:28 AM; Lifecycle Status: Active; Minimum Order: 1; Mounting Type: Surface Mount; Operating Temperature: -55°C ~ 150°C (TJ); Package / Case: SC-76, SOD-323; Packaging: TapeAndReel; PartId: 9917; Part Status: Active; Price: 0.29; Series: -; Supplier 1: DigiKey; Supplier Part Number 1: CDSOD323-T05LCCT-ND; Supplier Device Package: SOD-323; Voltage - Reverse Standoff (Typ): 5V
footprint SOD323
pins: 1, 2

## CDSOD323-T05S
designator D?
TVS DIODE 5V 13.5V SOD323; Manufacturer: Bourns Inc.; Capacitance @ Frequency: 350pF @ 1MHz; Current - Peak Pulse (10/1000µs): 42A (8/20µs); Power Line Protection: No; Power - Peak Pulse: 500W; Type: Zener; Unidirectional Channels: 1; Voltage - Breakdown (Min): 6V; Voltage - Clamping (Max) @ Ipp: 13.5V (Typ); Part Number: CDSOD323-T05S; Applications: General Purpose; ComponentLink1Description: Datasheet; ComponentLink1URL: https://www.bourns.com/docs/Product-Datasheets/CDSOD323-TxxSC.pdf; ComponentLink2Description: DigiKey Link; ComponentLink2URL: http://digikey.com/product-detail/en/bourns-inc/CDSOD323-T05S/CDSOD323-T05SCT-ND/5774994; LastUpdated: 9/2/2020 1:28:27 AM; Lifecycle Status: Active; Minimum Order: 1; Mounting Type: Surface Mount; Operating Temperature: -55°C ~ 150°C (TJ); Package / Case: SC-76, SOD-323; Packaging: TapeAndReel; PartId: 9866; Part Status: Active; Price: 0.22; Series: -; Supplier 1: DigiKey; Supplier Part Number 1: CDSOD323-T05SCT-ND; Supplier Device Package: SOD-323; Voltage - Reverse Standoff (Typ): 5V
footprint SOD323
pins: 1, 2

## CDSOD323-T05SC
designator D?
TVS DIODE 5V 14.5V SOD323; Manufacturer: Bourns Inc.; Bidirectional Channels: 1; Capacitance @ Frequency: 175pF @ 1MHz; Current - Peak Pulse (10/1000µs): 28A (8/20µs); Power Line Protection: No; Power - Peak Pulse: 400W; Type: Zener; Voltage - Breakdown (Min): 6V; Voltage - Clamping (Max) @ Ipp: 14.5V (Typ); Part Number: CDSOD323-T05SC; Applications: General Purpose; ComponentLink1Description: Datasheet; ComponentLink1URL: https://www.bourns.com/docs/Product-Datasheets/CDSOD323-TxxSC.pdf; ComponentLink2Description: DigiKey Link; ComponentLink2URL: http://digikey.com/product-detail/en/bourns-inc/CDSOD323-T05SC/CDSOD323-T05SCCT-ND/4247650; LastUpdated: 9/2/2020 1:28:29 AM; Lifecycle Status: Active; Minimum Order: 1; Mounting Type: Surface Mount; Operating Temperature: -55°C ~ 150°C (TJ); Package / Case: SC-76, SOD-323; Packaging: TapeAndReel; PartId: 9952; Part Status: Active; Price: 0.23; Series: -; Supplier 1: DigiKey; Supplier Part Number 1: CDSOD323-T05SCCT-ND; Supplier Device Package: SOD-323; Voltage - Reverse Standoff (Typ): 5V
footprint SOD323
pins: 1, 2

## CDSOD323-T08
designator D?
TVS DIODE 8V 18.5V SOD323; Manufacturer: Bourns Inc.; Capacitance @ Frequency: 3pF @ 1MHz; Current - Peak Pulse (10/1000µs): 17A (8/20µs); Power Line Protection: No; Power - Peak Pulse: 350W; Type: Zener; Unidirectional Channels: 1; Voltage - Breakdown (Min): 8.5V; Voltage - Clamping (Max) @ Ipp: 18.5V (Typ); Part Number: CDSOD323-T08; Applications: General Purpose; ComponentLink1Description: Datasheet; ComponentLink1URL: https://www.bourns.com/docs/Product-Datasheets/CDSOD323-TxxC.PDF; ComponentLink2Description: DigiKey Link; ComponentLink2URL: http://digikey.com/product-detail/en/bourns-inc/CDSOD323-T08/118-CDSOD323-T08CT-ND/10668334; LastUpdated: 9/2/2020 1:28:27 AM; Lifecycle Status: Active; Minimum Order: 1; Mounting Type: Surface Mount; Operating Temperature: -55°C ~ 150°C (TJ); Package / Case: SC-76, SOD-323; Packaging: TapeAndReel; PartId: 9902; Part Status: Active; Price: 0.24; Series: -; Supplier 1: DigiKey; Supplier Part Number 1: 118-CDSOD323-T08CT-ND; Supplier Device Package: SOD-323; Voltage - Reverse Standoff (Typ): 8V
footprint SOD323
pins: 1, 2

## CDSOD323-T08C
designator D?
TVS DIODE 8V 18.5V SOD323; Manufacturer: Bourns Inc.; Bidirectional Channels: 1; Capacitance @ Frequency: 3pF @ 1MHz; Current - Peak Pulse (10/1000µs): 17A (8/20µs); Power Line Protection: No; Power - Peak Pulse: 350W; Type: Zener; Voltage - Breakdown (Min): 8.5V; Voltage - Clamping (Max) @ Ipp: 18.5V (Typ); Part Number: CDSOD323-T08C; Applications: General Purpose; ComponentLink1Description: Datasheet; ComponentLink1URL: https://www.bourns.com/docs/Product-Datasheets/CDSOD323-TxxC.PDF; ComponentLink2Description: DigiKey Link; ComponentLink2URL: http://digikey.com/product-detail/en/bourns-inc/CDSOD323-T08C/CDSOD323-T08CCT-ND/3742029; LastUpdated: 9/2/2020 1:28:29 AM; Lifecycle Status: Active; Minimum Order: 1; Mounting Type: Surface Mount; Operating Temperature: -55°C ~ 150°C (TJ); Package / Case: SC-76, SOD-323; Packaging: TapeAndReel; PartId: 9947; Part Status: Active; Price: 0.26; Series: -; Supplier 1: DigiKey; Supplier Part Number 1: CDSOD323-T08CCT-ND; Supplier Device Package: SOD-323; Voltage - Reverse Standoff (Typ): 8V
footprint SOD323
pins: 1, 2

## CDSOD323-T08L
designator D?
TVS DIODE 8V 18.3V SOD323; Manufacturer: Bourns Inc.; Capacitance @ Frequency: 1pF @ 1MHz; Current - Peak Pulse (10/1000µs): 15A (8/20µs); Power Line Protection: No; Power - Peak Pulse: 350W; Type: Zener; Unidirectional Channels: 1; Voltage - Breakdown (Min): 8.5V; Voltage - Clamping (Max) @ Ipp: 18.3V (Typ); Part Number: CDSOD323-T08L; Applications: HDMI, USB OTG; ComponentLink1Description: Datasheet; ComponentLink1URL: https://www.bourns.com/docs/Product-Datasheets/CDSOD323-TxxLC.pdf; ComponentLink2Description: DigiKey Link; ComponentLink2URL: http://digikey.com/product-detail/en/bourns-inc/CDSOD323-T08L/CDSOD323-T08LCT-ND/6679632; LastUpdated: 9/2/2020 1:28:27 AM; Lifecycle Status: Active; Minimum Order: 1; Mounting Type: Surface Mount; Operating Temperature: -55°C ~ 150°C (TJ); Package / Case: SC-76, SOD-323; Packaging: TapeAndReel; PartId: 9908; Part Status: Active; Price: 0.29; Series: -; Supplier 1: DigiKey; Supplier Part Number 1: CDSOD323-T08LCT-ND; Supplier Device Package: SOD-323; Voltage - Reverse Standoff (Typ): 8V
footprint SOD323
pins: 1, 2

## CDSOD323-T08LC
designator D?
TVS DIODE 8V 18.3V SOD323; Manufacturer: Bourns Inc.; Bidirectional Channels: 1; Capacitance @ Frequency: 1pF @ 1MHz; Current - Peak Pulse (10/1000µs): 15A (8/20µs); Power Line Protection: No; Power - Peak Pulse: 250W; Type: Zener; Voltage - Breakdown (Min): 8.5V; Voltage - Clamping (Max) @ Ipp: 18.3V (Typ); Part Number: CDSOD323-T08LC; Applications: HDMI, USB OTG; ComponentLink1Description: Datasheet; ComponentLink1URL: https://www.bourns.com/docs/Product-Datasheets/CDSOD323-TxxLC.pdf; ComponentLink2Description: DigiKey Link; ComponentLink2URL: http://digikey.com/product-detail/en/bourns-inc/CDSOD323-T08LC/CDSOD323-T08LCCT-ND/3742030; LastUpdated: 9/2/2020 1:28:29 AM; Lifecycle Status: Active; Minimum Order: 1; Mounting Type: Surface Mount; Operating Temperature: -55°C ~ 150°C (TJ); Package / Case: SC-76, SOD-323; Packaging: TapeAndReel; PartId: 9923; Part Status: Active; Price: 0.29; Series: -; Supplier 1: DigiKey; Supplier Part Number 1: CDSOD323-T08LCCT-ND; Supplier Device Package: SOD-323; Voltage - Reverse Standoff (Typ): 8V
footprint SOD323
pins: 1, 2

## CDSOD323-T08S
designator D?
TVS DIODE 8V 16.9V SOD323; Manufacturer: Bourns Inc.; Capacitance @ Frequency: 250pF @ 1MHz; Current - Peak Pulse (10/1000µs): 34A (8/20µs); Power Line Protection: No; Power - Peak Pulse: 500W; Type: Zener; Unidirectional Channels: 1; Voltage - Breakdown (Min): 8.5V; Voltage - Clamping (Max) @ Ipp: 16.9V (Typ); Part Number: CDSOD323-T08S; Applications: General Purpose; ComponentLink1Description: Datasheet; ComponentLink1URL: https://www.bourns.com/docs/Product-Datasheets/CDSOD323-TxxSC.pdf; ComponentLink2Description: DigiKey Link; ComponentLink2URL: http://digikey.com/product-detail/en/bourns-inc/CDSOD323-T08S/CDSOD323-T08SCT-ND/6134027; LastUpdated: 9/2/2020 1:28:27 AM; Lifecycle Status: Active; Minimum Order: 1; Mounting Type: Surface Mount; Operating Temperature: -55°C ~ 150°C (TJ); Package / Case: SC-76, SOD-323; Packaging: TapeAndReel; PartId: 9910; Part Status: Active; Price: 0.22; Series: -; Supplier 1: DigiKey; Supplier Part Number 1: CDSOD323-T08SCT-ND; Supplier Device Package: SOD-323; Voltage - Reverse Standoff (Typ): 8V
footprint SOD323
pins: 1, 2

## CDSOD323-T08SC
designator D?
TVS DIODE 8V 18.5V SOD323; Manufacturer: Bourns Inc.; Bidirectional Channels: 1; Capacitance @ Frequency: 150pF @ 1MHz; Current - Peak Pulse (10/1000µs): 17A (8/20µs); Power Line Protection: No; Power - Peak Pulse: 400W; Type: Zener; Voltage - Breakdown (Min): 8.5V; Voltage - Clamping (Max) @ Ipp: 18.5V (Typ); Part Number: CDSOD323-T08SC; Applications: General Purpose; ComponentLink1Description: Datasheet; ComponentLink1URL: https://www.bourns.com/docs/Product-Datasheets/CDSOD323-TxxSC.pdf; ComponentLink2Description: DigiKey Link; ComponentLink2URL: http://digikey.com/product-detail/en/bourns-inc/CDSOD323-T08SC/CDSOD323-T08SCCT-ND/6134028; LastUpdated: 9/2/2020 1:28:28 AM; Lifecycle Status: Active; Minimum Order: 1; Mounting Type: Surface Mount; Operating Temperature: -55°C ~ 150°C (TJ); Package / Case: SC-76, SOD-323; Packaging: TapeAndReel; PartId: 9921; Part Status: Active; Price: 0.23; Series: -; Supplier 1: DigiKey; Supplier Part Number 1: CDSOD323-T08SCCT-ND; Supplier Device Package: SOD-323; Voltage - Reverse Standoff (Typ): 8V
footprint SOD323
pins: 1, 2

## CDSOD323-T12
designator D?
TVS DIODE 12V 28.3V SOD323; Manufacturer: Bourns Inc.; Capacitance @ Frequency: 3pF @ 1MHz; Current - Peak Pulse (10/1000µs): 11A (8/20µs); Power Line Protection: No; Power - Peak Pulse: 350W; Type: Zener; Unidirectional Channels: 1; Voltage - Breakdown (Min): 13.3V; Voltage - Clamping (Max) @ Ipp: 28.3V (Typ); Part Number: CDSOD323-T12; Applications: General Purpose; ComponentLink1Description: Datasheet; ComponentLink1URL: https://www.bourns.com/docs/Product-Datasheets/CDSOD323-TxxC.PDF; ComponentLink2Description: DigiKey Link; ComponentLink2URL: http://digikey.com/product-detail/en/bourns-inc/CDSOD323-T12/CDSOD323-T12CT-ND/5355717; LastUpdated: 9/2/2020 1:28:26 AM; Lifecycle Status: Active; Minimum Order: 1; Mounting Type: Surface Mount; Operating Temperature: -55°C ~ 150°C (TJ); Package / Case: SC-76, SOD-323; Packaging: TapeAndReel; PartId: 9836; Part Status: Active; Price: 0.24; Series: -; Supplier 1: DigiKey; Supplier Part Number 1: CDSOD323-T12CT-ND; Supplier Device Package: SOD-323; Voltage - Reverse Standoff (Typ): 12V
footprint SOD323
pins: 1, 2

## CDSOD323-T12C
designator D?
TVS DIODE 12V 28.3V SOD323; Manufacturer: Bourns Inc.; Bidirectional Channels: 1; Capacitance @ Frequency: 3pF @ 1MHz; Current - Peak Pulse (10/1000µs): 11A (8/20µs); Power Line Protection: No; Power - Peak Pulse: 350W; Type: Zener; Voltage - Breakdown (Min): 13.3V; Voltage - Clamping (Max) @ Ipp: 28.3V (Typ); Part Number: CDSOD323-T12C; Applications: General Purpose; ComponentLink1Description: Datasheet; ComponentLink1URL: https://www.bourns.com/docs/Product-Datasheets/CDSOD323-TxxC.PDF; ComponentLink2Description: DigiKey Link; ComponentLink2URL: http://digikey.com/product-detail/en/bourns-inc/CDSOD323-T12C/CDSOD323-T12CCT-ND/3742031; LastUpdated: 9/2/2020 1:28:29 AM; Lifecycle Status: Active; Minimum Order: 1; Mounting Type: Surface Mount; Operating Temperature: -55°C ~ 150°C (TJ); Package / Case: SC-76, SOD-323; Packaging: TapeAndReel; PartId: 9943; Part Status: Active; Price: 0.26; Series: -; Supplier 1: DigiKey; Supplier Part Number 1: CDSOD323-T12CCT-ND; Supplier Device Package: SOD-323; Voltage - Reverse Standoff (Typ): 12V
footprint SOD323
pins: 1, 2

## CDSOD323-T12C-DSL
designator D?
TVS DIODE 12V 28.3V SOD323; Manufacturer: Bourns Inc.; Bidirectional Channels: 1; Capacitance @ Frequency: 3pF @ 1MHz; Current - Peak Pulse (10/1000µs): 11A (8/20µs); Power Line Protection: No; Power - Peak Pulse: 350W; Type: Zener; Voltage - Breakdown (Min): 13.3V; Voltage - Clamping (Max) @ Ipp: 28.3V (Typ); Part Number: CDSOD323-T12C-DSL; Applications: General Purpose; ComponentLink1Description: Datasheet; ComponentLink1URL: https://www.bourns.com/docs/Product-Datasheets/CDSOD323-TxxC-DSL.pdf; ComponentLink2Description: DigiKey Link; ComponentLink2URL: http://digikey.com/product-detail/en/bourns-inc/CDSOD323-T12C-DSL/CDSOD323-T12C-DSLCT-ND/2773463; LastUpdated: 9/2/2020 1:28:28 AM; Lifecycle Status: Active; Minimum Order: 1; Mounting Type: Surface Mount; Operating Temperature: -55°C ~ 150°C (TJ); Package / Case: SC-76, SOD-323; Packaging: TapeAndReel; PartId: 9919; Part Status: Active; Price: 0.29; Series: -; Supplier 1: DigiKey; Supplier Part Number 1: CDSOD323-T12C-DSLCT-ND; Supplier Device Package: SOD-323; Voltage - Reverse Standoff (Typ): 12V
footprint SOD323
pins: 1, 2

## CDSOD323-T12C-DSLQ
designator D?
DIO TVS VWM 12V 350W BIDIR SOD32; Manufacturer: Bourns Inc.; Bidirectional Channels: 1; Capacitance @ Frequency: 3pF @ 1MHz; Current - Peak Pulse (10/1000µs): 11A (8/20µs); Power Line Protection: No; Type: Zener; Voltage - Breakdown (Min): 13.3V; Voltage - Clamping (Max) @ Ipp: 28.3V (Typ); Part Number: CDSOD323-T12C-DSLQ; Applications: Automotive, Telecom; ComponentLink1Description: Datasheet; ComponentLink1URL: https://www.bourns.com/docs/Product-Datasheets/CDSOD323-T12C-DSLQ.pdf; ComponentLink2Description: DigiKey Link; ComponentLink2URL: http://digikey.com/product-detail/en/bourns-inc/CDSOD323-T12C-DSLQ/CDSOD323-T12C-DSLQCT-ND/8680925; LastUpdated: 9/2/2020 1:28:29 AM; Lifecycle Status: Active; Minimum Order: 1; Mounting Type: Surface Mount; Operating Temperature: -55°C ~ 150°C (TJ); Package / Case: SC-76, SOD-323; Packaging: TapeAndReel; PartId: 9940; Part Status: Active; Power - Peak Pulse: 350W; Price: 0.30; Series: Automotive, AEC-Q101; Supplier 1: DigiKey; Supplier Part Number 1: CDSOD323-T12C-DSLQCT-ND; Supplier Device Package: SOD-323; Voltage - Reverse Standoff (Typ): 12V
footprint SOD323
pins: 1, 2

## CDSOD323-T12L
designator D?
TVS DIODE 12V 28.6V SOD323; Manufacturer: Bourns Inc.; Capacitance @ Frequency: 1pF @ 1MHz; Current - Peak Pulse (10/1000µs): 11A (8/20µs); Power Line Protection: No; Power - Peak Pulse: 350W; Type: Zener; Unidirectional Channels: 1; Voltage - Breakdown (Min): 13.3V; Voltage - Clamping (Max) @ Ipp: 28.6V (Typ); Part Number: CDSOD323-T12L; Applications: HDMI, USB OTG; ComponentLink1Description: Datasheet; ComponentLink1URL: https://www.bourns.com/docs/Product-Datasheets/CDSOD323-TxxLC.pdf; ComponentLink2Description: DigiKey Link; ComponentLink2URL: http://digikey.com/product-detail/en/bourns-inc/CDSOD323-T12L/CDSOD323-T12LCT-ND/10261768; LastUpdated: 9/2/2020 1:28:27 AM; Lifecycle Status: Active; Minimum Order: 1; Mounting Type: Surface Mount; Operating Temperature: -55°C ~ 150°C; Package / Case: SC-76, SOD-323; Packaging: TapeAndReel; PartId: 9855; Part Status: Active; Price: 0.29; Series: -; Supplier 1: DigiKey; Supplier Part Number 1: CDSOD323-T12LCT-ND; Supplier Device Package: SOD-323; Voltage - Reverse Standoff (Typ): 12V
footprint SOD323
pins: 1, 2